# Altium integrated library SJ-43515TS.IntLib: 1 symbol
Pins are listed as number, name and electrical type; pins without a type are passive.

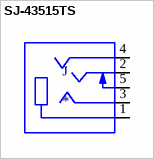
[diagram p0: symbol SJ-43515TS]

## SJ-43515TS
designator J
3.5 mm, 4 Conductors, Right Angle, Through Hole, Audio Jack Connector; MP: SJ-43515TS; MF: CUI Devices; CUI_purchase_URL: https://www.cuidevices.com/product/interconnect/connectors/audio-connectors/jacks/sj-4351x-series?utm_source=snapeda.com&utm_medium=referral&utm_campaign=snapedaBOM; Package: None; Price: None; Availability: Unavailable; SnapEDA_Link: https://www.snapeda.com/parts/SJ-43515TS/CUI%20Devices/view-part/451795/?ref=snap; Value: *
footprint CUI_SJ-43515TS
pins: 1 SLEEVE, 2 TIP, 3 RING1, 4 RING2, 5 TIP_SWITCH